# Altium schematic symbol library DFE322520FD-2R2MP2.SchLib: 1 symbol
Pins are listed as number, name and electrical type; pins without a type are passive.

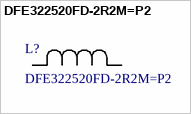
[diagram p0: symbol DFE322520FD-2R2M=P2]

## DFE322520FD-2R2M=P2
designator L?
Description; Manufacturer_Name: Murata; Type: Fixed Inductors; Copyright: Copyright (C) 2025 Ultra Librarian. All rights reserved.; Manufacturer_Part_Number: DFE322520FD-2R2M=P2
footprint IND_DFE3225_MUR
pins: 1, 2